# Altium integrated library 282834-5.IntLib: 1 symbol
Pins are listed as number, name and electrical type; pins without a type are passive.

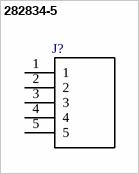
[diagram p0: symbol 282834-5]

## 282834-5
designator J?  (value not drawn)
/ Buchanan; Conn; Term Blk; PCB; 5; 2.54mm; Front; 30-16 AWG; Green; 10 A; 150 V /; MF: TE Connectivity; MP: 282834-5; TE_purchase_URL: https://www.te.com/usa-en/product-282834-5.html?te_bu=Cor&te_type=disp&te_campaign=seda_glo_cor-seda-global-disp-prtnr-fy19-seda-model-bom-cta_sma-317_1&elqCampaignId=32493; Package: None; Price: None; SnapEDA_Link: https://www.snapeda.com/parts/282834-5/TE%20Connectivity%20AMP%20Connectors/view-part/641357/?ref=snap; EU_RoHS_Compliance: Compliant with Exemptions; Availability: Unavailable; Value: *
footprint *TE_282834-5
pins: 1, 2, 3, 4, 5